# EAGLE library part USB-M26FTR (library USB-M26FTR)
Conn Mini USB Type B RCP 5 POS 0.8mm Solder RA SMD 10 Terminal 1 Port T/R Source: Datasheet <https://www.on-shore.com/wp-content/uploads/USB-M26FXX.pdf>
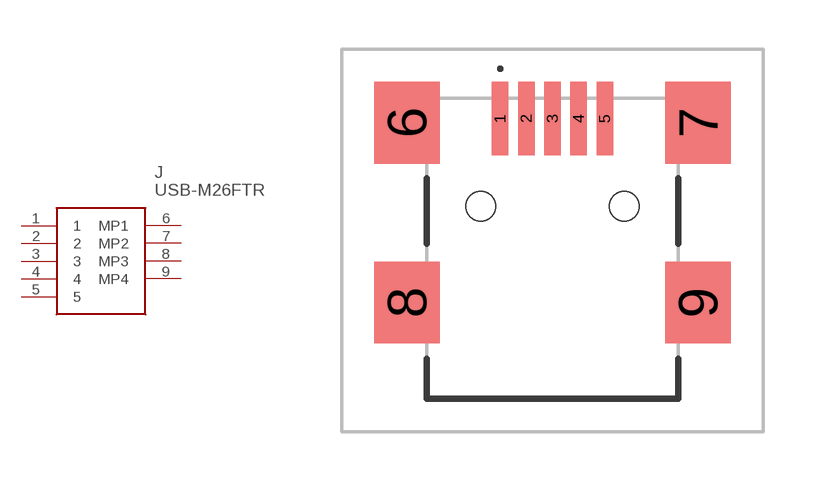
[diagram p0: symbol with the pads of USBM26FTR; footprint USBM26FTR]

Designator prefix J

## USB-M26FTR (Arrow_Part_Number: USB-M26FTR; Arrow_Price-Stock: https://www.arrow.com/en/products/usb-m26ftr/on-shore-technology?region=nac; Description: Conn Mini USB Type B RCP 5 POS 0.8mm Solder RA SMD 10 Terminal 1 Port T/R; Height: 3.95mm; Manufacturer_Name: On Shore Technology Inc.; Manufacturer_Part_Number: USB-M26FTR)  [USBM26FTR]
1  1
2  2
3  3
4  4
5  5
6  MP1
7  MP2
8  MP3
9  MP4

## Footprint USBM26FTR (pad centres in mm)
USB-M26FTR-4
smd 0.5 x 2.25: 1 -1.6,3.425; 2 -0.8,3.425; 3 0,3.425; 4 0.8,3.425; 5 1.6,3.425
smd 2 x 2.5: 6 -4.45,3.3; 7 4.45,3.3; 8 -4.45,-2.2; 9 4.45,-2.2
hole 0.9 at -2.2,0.75
hole 0.9 at 2.2,0.75